# EAGLE library part POE-ISOLATION (library ELL-i-Transformers)
Power-over-Ethernet isolation transformers In twisted pair Ethernet networks, there is a 1500V isolation transformer between the network cable and the connected device. In Power-over-Ethernet devices, the transformer provides the extra function of allowing the DC power to be extracted from the cable-side center taps of the transformer. For high-power PoE, the transformer cable-side winding must be of thick enough wire (i.e. have low-enough resistance) to carry the DC current without warming up too much. Isolation transformers <https://en.wikipedia.org/wiki/Isolation_transformer> (general article) Power-over-Ethernet <https://en.wikipedia.org/wiki/Power_over_Ethernet> (general article)
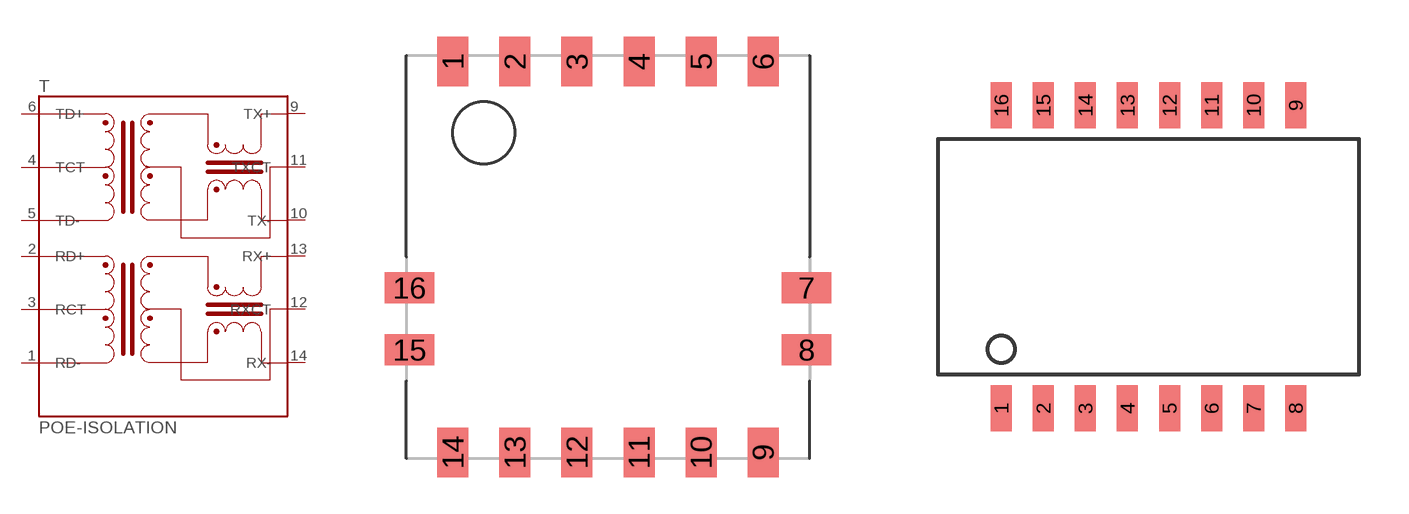
[diagram p1: symbol with the pads of COILCRAFT-ETH1-230L; footprints COILCRAFT-ETH1-230L, PULSE-H2019NL]

Designator prefix T

## POE-ISOLATION-230NL  [COILCRAFT-ETH1-230L]
1  RD-  in
2  RD+  in
3  RCT  in
4  TCT  in
5  TD-  in
6  TD+  in
9  TX+
10  TX-
11  TXCT
12  RXCT
13  RX+
14  RX-

## POE-ISOLATION-H2019NL  [PULSE-H2019NL]
1  TD+  in
2  TCT  in
3  TD-  in
6  RD+  in
7  RCT  in
8  RD-  in
9  RX-
10  RXCT
11  RX+
14  TX-
15  TXCT
16  TX+

## Footprint COILCRAFT-ETH1-230L (pad centres in mm)
Coilcraft PoE Plus Magnetics for 30 Watt Signal Path This is the footprint for the Coilcraft ETH1-230L Power-over-Ethernet transformer. This transformer has thick-enough cable-side winding so that almost 1A of DC power can be passed through it, allowing 30W 802.3at devices to be powered. Product web page <http://www.coilcraft.com/eth1-230.cfm>
smd 1.27 x 2.032: 1 -6.35,8.001; 2 -3.81,8.001; 3 -1.27,8.001; 4 1.27,8.001; 5 3.81,8.001; 6 6.35,8.001; 9 6.35,-8.001; 10 3.81,-8.001; 11 1.27,-8.001; 12 -1.27,-8.001; 13 -3.81,-8.001; 14 -6.35,-8.001
smd 2.032 x 1.27: 7 8.128,-1.27; 8 8.128,-3.81; 15 -8.128,-3.81; 16 -8.128,-1.27

## Footprint PULSE-H2019NL (pad centres in mm)
smd 0.635 x 1.397: 1 -4.445,-4.572; 2 -3.175,-4.572; 3 -1.905,-4.572; 4 -0.635,-4.572; 5 0.635,-4.572; 6 1.905,-4.572; 7 3.175,-4.572; 8 4.445,-4.572; 9 4.445,4.572; 10 3.175,4.572; 11 1.905,4.572; 12 0.635,4.572; 13 -0.635,4.572; 14 -1.905,4.572; 15 -3.175,4.572; 16 -4.445,4.572